# Altium footprint library PcbLib1.PcbLib: 1 footprints
Each footprint in its own frame and in the unit in brackets; x right, y up, seen from the top. Pads: shape width x height; smd on the part's side, far side on the other; paste and mask are expansions set on the pad; w line width, h text height; cw(c..) or ccw(c..) is an arc to the next point about the centre after c.
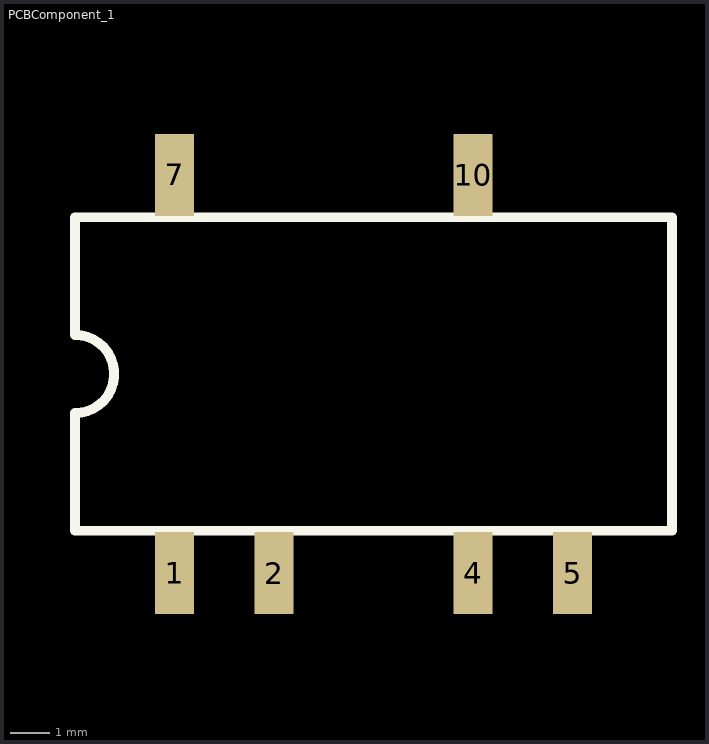
[diagram p0: the footprint, top view; thin cyan lines are the x and y axes]

## PCBComponent_1 [mm]
pads (6):
  rect 1x2.1 smd: 1(-794.512,-929.894) 2(-791.972,-929.894) 4(-786.892,-929.894) 5(-784.352,-929.894) 7(-794.512,-919.734) 10(-786.892,-919.734)
Top Layer:
  lines w0.254: -797.052,-927.354 -797.052,-926.814
Top Overlay:
  lines w0.254: -797.052,-928.814 -797.052,-926.814 -797.052,-925.814 ccw(c-797.052,-924.814) -797.052,-923.814 -797.052,-922.814 -797.052,-920.814 -781.812,-920.814 -781.812,-928.814 -797.052,-928.814